# Altium schematic symbol library Passive.SchLib: 32 symbols
Pins are listed as number, name and electrical type; pins without a type are passive.

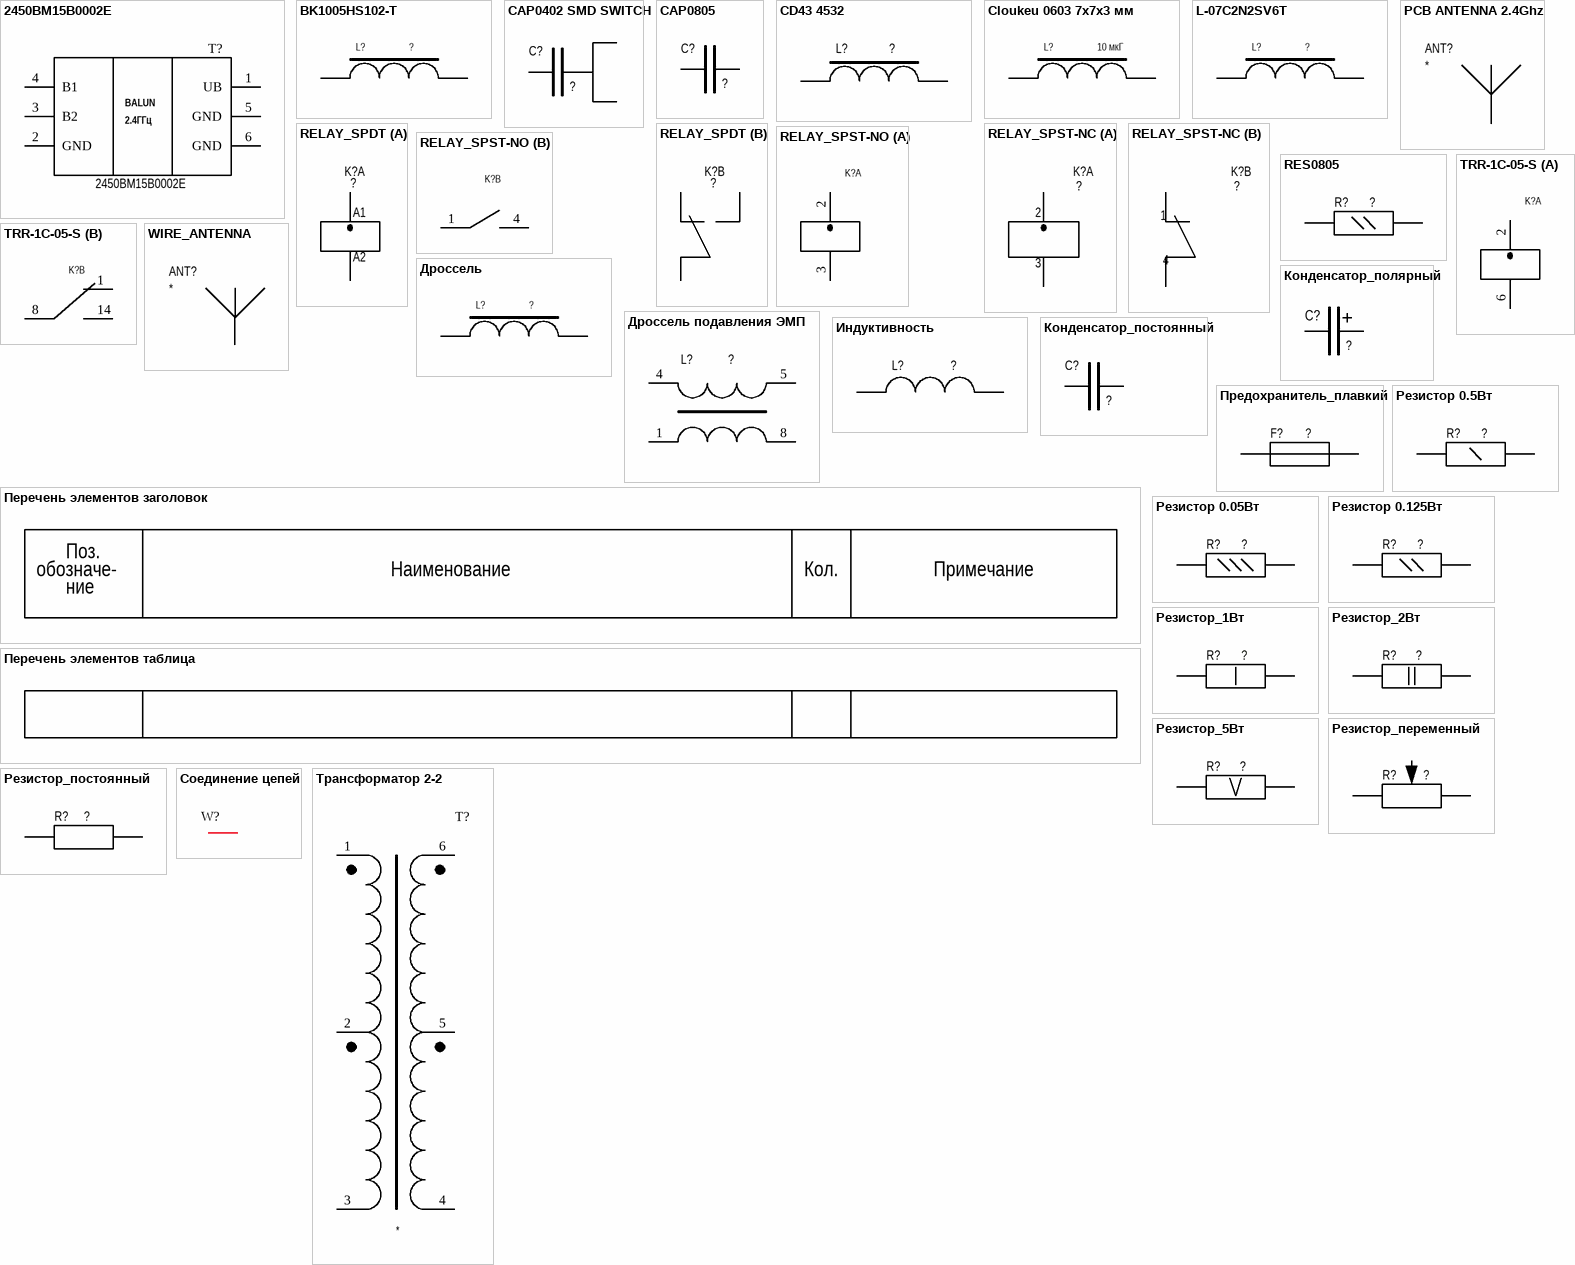
[diagram p0: symbols 2450BM15B0002E to Трансформатор 2-2]

## 2450BM15B0002E
designator T?
type: *; value: *
footprint 2450BM15B0002
pins: 1 UB, 2 GND, 3 B2, 4 B1, 5 GND, 6 GND
text: BALUN; 2.4ГГц

## BK1005HS102-T
designator L?
Дросель; value: ?
footprint IND0402
pins: 1, 2

## CAP0402 SMD SWITCH
designator C?, comment ?
value: ?
footprint CAP0402 -  SWITCH (Возможность комутировать антенну)
pins: 1, 2, 3

## CAP0805
designator C?, comment ?
value: ?
footprint CAP0805
pins: 1, 2

## CD43 4532
designator L?
value: ?
footprint CDRH6D38
pins: 1, 2

## Cloukeu 0603 7х7х3 мм
designator L?  value 10 мкГ
Дросель 10 мкГ,4А
footprint CDRH6D38
pins: 1, 2

## L-07C2N2SV6T
designator L?
Дросель; value: ?
footprint IND0805
pins: 1, 2

## PCB ANTENNA 2.4Ghz
designator ANT?
footprint F-antena (2.4 Ghz fow zigbee)
pins: 0

## RELAY_SPDT
designator K?, comment ?
value: ?
part A pins: A1, A2
part B pins: 11, 12, 14

## RELAY_SPST-NC
designator K?, comment ?
value: ?
part A pins: 2, 3
part B pins: 1, 4

## RELAY_SPST-NO
designator K?
Type: ?
part A pins: 2, 3
part B pins: 1, 4

## RES0805
designator R?  (value not drawn)
value: ?
footprint RES0805
pins: 1, 2

## TRR-1C-05-S
designator K?, comment ?  (value not drawn)
Type: ?; value: ?
part A pins: 2, 6, 13 hidden to 2
part B pins: 1, 7 hidden to 8, 8, 14

## WIRE_ANTENNA
designator ANT?
footprint WIRED ANTENA 2.4GHz
pins: 1 0

## Дроссель
designator L?
value: ?
pins: 1, 2

## Дроссель подавления ЭМП
designator L?, comment ?
value: ?
pins: 1, 4, 5, 8

## Индуктивность
designator L?, comment ?
value: ?
pins: 1, 2

## Конденсатор_полярный
designator C?, comment ?
value: ?
footprint CapSMDB
footprint CapSMDC
footprint CAPRAD8L20 (Jamicon 1000uFx16V)
pins: 1, 2

## Конденсатор_постоянный
designator C?, comment ?
value: ?
pins: 1, 2

## Перечень элементов заголовок
designator ESKD?  (value not drawn)  (graphical)
text: Поз.; обозначе-; Наименование; Кол.; Примечание; ние

## Перечень элементов таблица
designator ESKD?  (value not drawn)  (graphical)

## Предохранитель_плавкий
designator F?, comment ?
Type: ?; value: ?
pins: 1, 2

## Резистор 0.5Вт
designator R?  (value not drawn)
value: ?
pins: 1, 2

## Резистор 0.05Вт
designator R?  (value not drawn)
value: ?
pins: 1, 2

## Резистор 0.125Вт
designator R?  (value not drawn)
value: ?
footprint RES0805
pins: 1, 2

## Резистор_1Вт
designator R?, comment ?
value: ?
pins: 1, 2

## Резистор_2Вт
designator R?
Type: ?
pins: 1, 2

## Резистор_5Вт
designator R?
Type: ?
pins: 1, 2

## Резистор_переменный
designator R?, comment ?
Type: ?; value: ?
pins: 1, 2, 3

## Резистор_постоянный
designator R?, comment ?
value: ?
pins: 1, 2

## Соединение цепей
designator W?, comment Соединитель цепей  (value not drawn)  (net tie, no BOM)
pins: 1, 2

## Трансформатор 2-2
designator T?
pins: 1, 2, 3, 4, 5, 6